# EAGLE library part BC847CDXV6T (library robotter_ic)
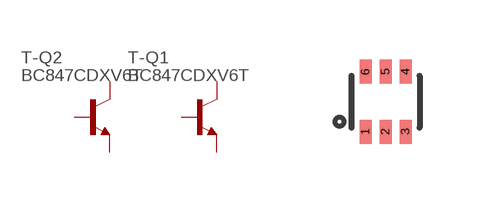
[diagram p21: symbol with the pads of SOT563-6; footprint SOT563-6]

Designator prefix T; gates -Q2=NPN -Q1=NPN

## BC847CDXV6T (MOUSER: 863-BC847CDXV6T1G; RS: 773-7627; VALUE: BC847CDXV6T1G)  [SOT563-6]
1  -Q2:E  pas
2  -Q2:B  pas
3  -Q1:C  pas
4  -Q1:E  pas
5  -Q1:B  pas
6  -Q2:C  pas

## Footprint SOT563-6 (pad centres in mm)
smd 0.3 x 0.6: 1 -0.5,-0.75; 2 0,-0.75; 3 0.5,-0.75; 4 0.5,0.75; 5 0,0.75; 6 -0.5,0.75